# Altium footprint library PcbLib.PcbLib: 9 footprints
Each footprint in its own frame and in the unit in brackets; x right, y up, seen from the top. Pads: shape width x height; smd on the part's side, far side on the other; paste and mask are expansions set on the pad; w line width, h text height; cw(c..) or ccw(c..) is an arc to the next point about the centre after c.
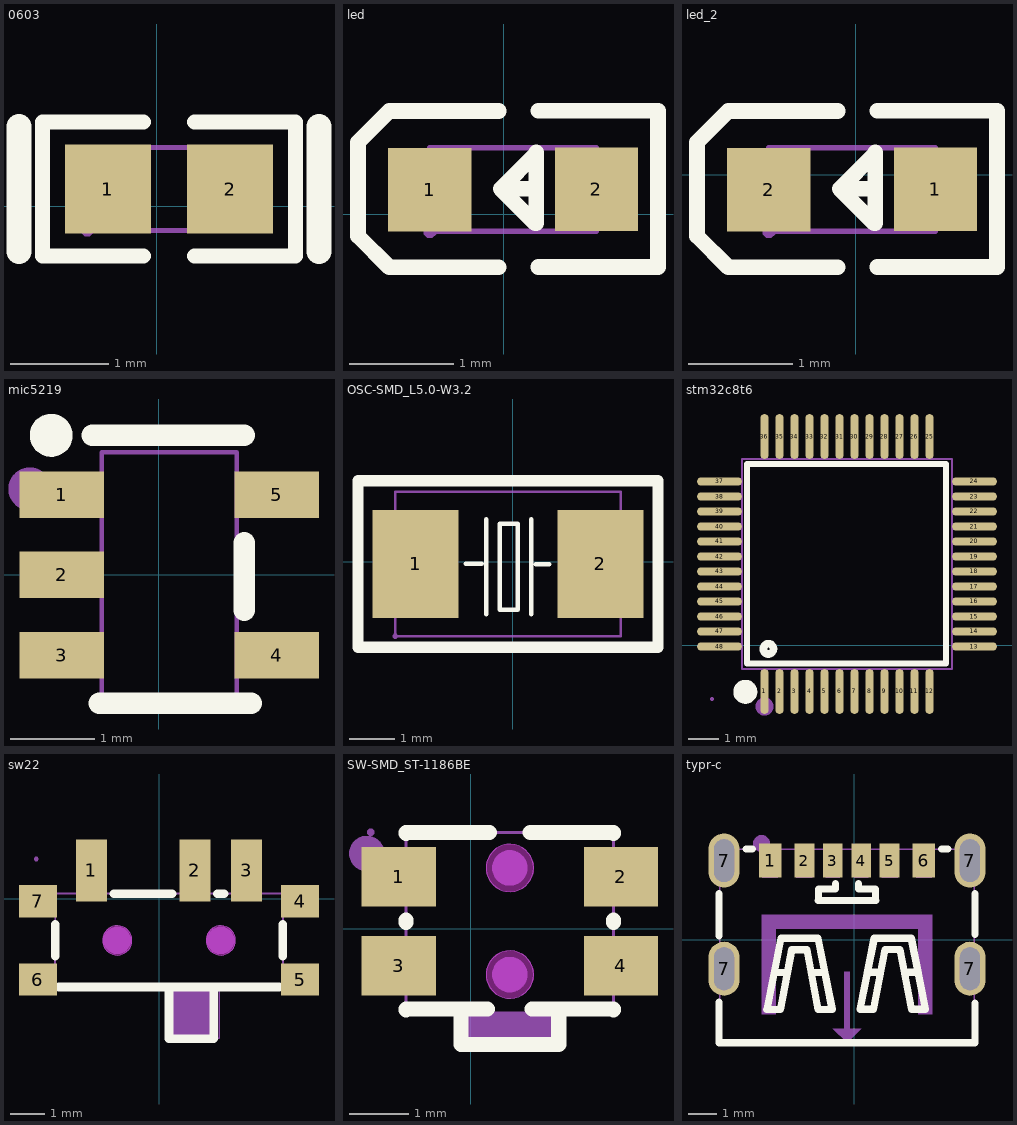
[diagram p0: the footprints below, top view; thin cyan lines are the x and y axes]

## 0603 [mm]
pads (2):
  rect 0.873x0.907 smd mask+0.051: 1(-0.495,0.174) 2(0.749,0.174)
Top Overlay:
  lines w0.152: -0.134,-0.508 -1.16,-0.508 -1.16,0.856 -0.134,0.856 ; 0.388,-0.508 1.414,-0.508 1.414,0.856 0.388,0.856
  lines w0.254: -1.397,-0.461 -1.397,0.809 ; 1.651,-0.461 1.651,0.809
Top Paste:
  region: -0.039,0.029 -0.039,0.319 -0.336,0.628 -0.864,0.628 -0.931,0.561 -0.931,-0.212 -0.864,-0.279 -0.336,-0.279
  region: 0.293,0.029 0.293,0.319 0.59,0.628 1.118,0.628 1.185,0.561 1.185,-0.212 1.118,-0.279 0.59,-0.279
Mechanical 15:
  region: 0.957,-0.246 0.957,0.594 0.527,0.594 0.527,-0.246
  region: -0.703,-0.246 -0.703,0.594 -0.273,0.594 -0.273,-0.246
  region: -0.643,-0.246 -0.643,-0.221 -0.678,-0.186 -0.728,-0.186 -0.763,-0.221 -0.763,-0.246 -0.763,-0.271 -0.728,-0.306 -0.678,-0.306 -0.643,-0.271
  lines w0.051: -0.703,-0.246 0.957,-0.246 0.957,0.594 -0.703,0.594 -0.703,-0.246

## led [mm]
pads (2):
  rect 0.8x0.8 smd mask+0.051: 1(-0.707,0.234) 2(0.892,0.241)
Top Overlay:
  lines w0.15: -0.047,-0.508 -1.097,-0.508 -1.397,-0.208 -1.397,-0.108 -1.397,0.592 -1.397,0.692 -1.097,0.992 -0.047,0.992 ; 0.313,0.244 -0.027,0.244 ; 0.333,-0.506 1.483,-0.506 ; 0.333,0.994 1.483,0.994 1.483,-0.486 ; -0.027,0.244 0.303,-0.086 0.313,-0.086 0.313,0.594 0.313,0.584 -0.027,0.244
Mechanical 6:
  region: 0.622,0.306 1.162,0.306 1.162,0.176 0.622,0.176
  region: 0.827,-0.029 0.827,0.511 0.957,0.511 0.957,-0.029
  region: -0.977,0.299 -0.437,0.299 -0.437,0.169 -0.977,0.169
Mechanical 15:
  region: -0.647,-0.166 -0.647,-0.141 -0.682,-0.106 -0.732,-0.106 -0.767,-0.141 -0.767,-0.166 -0.767,-0.19 -0.732,-0.226 -0.682,-0.226 -0.647,-0.19
  region: 0.593,-0.159 0.593,0.641 0.893,0.641 0.893,-0.159
  region: -0.707,-0.166 -0.707,0.634 -0.407,0.634 -0.407,-0.166
  lines w0.051: -0.707,-0.162 -0.707,0.638 0.893,0.638 0.893,-0.162 -0.707,-0.162

## led_2 [mm]
pads (2):
  rect 0.8x0.8 smd mask+0.051: 1(0.765,-0.14) 2(-0.834,-0.147)
Top Overlay:
  lines w0.15: -0.174,-0.889 -1.224,-0.889 -1.524,-0.589 -1.524,-0.489 -1.524,0.211 -1.524,0.311 -1.224,0.611 -0.174,0.611 ; 0.186,-0.137 -0.154,-0.137 ; 0.206,-0.887 1.356,-0.887 ; 0.206,0.613 1.356,0.613 1.356,-0.867 ; -0.154,-0.137 0.176,-0.467 0.186,-0.467 0.186,0.213 0.186,0.203 -0.154,-0.137
Mechanical 6:
  region: 0.495,-0.075 1.035,-0.075 1.035,-0.205 0.495,-0.205
  region: 0.7,-0.41 0.7,0.13 0.83,0.13 0.83,-0.41
  region: -1.104,-0.082 -0.564,-0.082 -0.564,-0.212 -1.104,-0.212
Mechanical 15:
  region: -0.774,-0.547 -0.774,-0.522 -0.809,-0.487 -0.859,-0.487 -0.894,-0.522 -0.894,-0.547 -0.894,-0.571 -0.859,-0.607 -0.809,-0.607 -0.774,-0.571
  region: 0.466,-0.54 0.466,0.26 0.766,0.26 0.766,-0.54
  region: -0.834,-0.547 -0.834,0.253 -0.534,0.253 -0.534,-0.547
  lines w0.051: -0.834,-0.543 -0.834,0.257 0.766,0.257 0.766,-0.543 -0.834,-0.543

## mic5219 [mm]
pads (5):
  rect 1x0.55 smd mask+0.051: 1(-1.144,0.948) 2(-1.144,-0.002) 3(-1.144,-0.952) 4(1.399,-0.952) 5(1.399,0.948)
Top Overlay:
  circle w0.254: c-1.27,1.649 r0.127
  lines w0.254: -0.784,1.649 1.016,1.649 ; -0.703,-1.524 1.097,-1.524 ; 1.016,-0.421 1.016,0.379
Mechanical 6:
  circle w0.254: c-1.524,1.014 r0.127
Mechanical 15:
  region: 1.077,1.148 1.527,1.148 1.527,0.748 1.077,0.748
  region: 0.917,1.148 1.087,1.148 1.087,0.748 0.917,0.748
  region: 1.077,-0.752 1.527,-0.752 1.527,-1.152 1.077,-1.152
  region: 0.917,-0.752 1.087,-0.752 1.087,-1.152 0.917,-1.152
  region: -1.273,-0.752 -0.823,-0.752 -0.823,-1.152 -1.273,-1.152
  region: -0.833,-0.752 -0.663,-0.752 -0.663,-1.152 -0.833,-1.152
  region: -1.273,0.198 -0.823,0.198 -0.823,-0.202 -1.273,-0.202
  region: -0.833,0.198 -0.663,0.198 -0.663,-0.202 -0.833,-0.202
  region: -1.273,1.148 -0.823,1.148 -0.823,0.748 -1.273,0.748
  region: -0.833,1.148 -0.663,1.148 -0.663,0.748 -0.833,0.748
  region: -1.13,1.534 -1.13,1.559 -1.165,1.594 -1.215,1.594 -1.25,1.559 -1.25,1.534 -1.25,1.509 -1.215,1.474 -1.165,1.474 -1.13,1.509
  lines w0.051: -0.673,-1.452 -0.673,1.448 0.927,1.448 0.927,-1.452 -0.673,-1.452

## OSC-SMD_L5.0-W3.2 [mm]
pads (2):
  rect 1.9x2.4 smd mask+0.051: 1(-2.154,-0.055) 2(1.946,-0.055)
Top Overlay:
  lines w0.1: -1.044,-0.055 -0.688,-0.055 ; -0.587,-1.164 -0.587,0.936 ; 0.413,-1.164 0.413,0.936 ; 0.513,-0.064 0.813,-0.064 ; -0.287,-1.064 -0.287,0.836 0.113,0.836 0.113,-1.064 -0.287,-1.064
  lines w0.254: -3.429,-1.905 3.221,-1.905 3.221,-0.755 3.221,0.645 3.221,1.795 -3.429,1.795 -3.429,0.645 -3.429,-0.755 -3.429,-1.905
Mechanical 15:
  region: -2.544,-1.655 -2.544,-1.63 -2.579,-1.595 -2.629,-1.595 -2.664,-1.63 -2.664,-1.655 -2.664,-1.68 -2.629,-1.715 -2.579,-1.715 -2.544,-1.68
  region: 2.396,0.945 2.396,-1.055 1.096,-1.055 1.096,0.945
  region: -1.304,0.945 -1.304,-1.055 -2.604,-1.055 -2.604,0.945
  lines w0.051: -2.604,-1.655 -2.604,1.545 2.396,1.545 2.396,-1.655 -2.604,-1.655

## stm32c8t6 [mm]
pads (48):
  oval 0.27x1.5 smd mask+0.05: 1(5.044,-1.536) 2(5.544,-1.536) 3(6.044,-1.536) 4(6.544,-1.536) 5(7.044,-1.536) 6(7.544,-1.536) 7(8.044,-1.536) 8(8.544,-1.536) 9(9.044,-1.536) 10(9.544,-1.536) 11(10.044,-1.536) 12(10.544,-1.536) 25(10.544,6.964) 26(10.044,6.964) 27(9.544,6.964) 28(9.044,6.964) 29(8.544,6.964) 30(8.044,6.964) 31(7.544,6.964) 32(7.044,6.964) 33(6.544,6.964) 34(6.044,6.964) 35(5.544,6.964) 36(5.044,6.964)
  oval 1.5x0.27 smd mask+0.05: 13(12.044,-0.036) 14(12.044,0.464) 15(12.044,0.964) 16(12.044,1.464) 17(12.044,1.964) 18(12.044,2.464) 19(12.044,2.964) 20(12.044,3.464) 21(12.044,3.964) 22(12.044,4.464) 23(12.044,4.964) 24(12.044,5.464) 37(3.544,5.464) 38(3.544,4.964) 39(3.544,4.464) 40(3.544,3.964) 41(3.544,3.464) 42(3.544,2.964) 43(3.544,2.464) 44(3.544,1.964) 45(3.544,1.464) 46(3.544,0.964) 47(3.544,0.464) 48(3.544,-0.036)
Top Overlay:
  circle w0.254: c5.174,-0.116 r0.17
  lines w0.2: 4.898,6.054 11.096,6.054 11.096,-0.601 4.467,-0.601 4.467,6.054 5.229,6.054
  lines w0.4: 4.404,-1.346 ccw(c4.405,-1.546) 4.406,-1.346
Mechanical 6:
  circle w0.3: c5.044,-2.036 r0.15
Mechanical 15:
  drawing of 101 lines, arcs and shapes, not listed

## sw22 [mm]
pads (7):
  rect 0.9x1.8 smd mask+0.051: 1(-1.964,0.819) 2(1.036,0.819) 3(2.536,0.819)
  rect 1.1x0.93 smd mask+0.051: 4(4.086,-0.077) 5(4.086,-2.347) 6(-3.514,-2.347) 7(-3.514,-0.077)
Top Overlay:
  lines w0.254: -3.014,-1.674 -3.014,-0.75 ; -2.914,-2.562 3.486,-2.562 ; -1.306,0.138 0.378,0.138 ; 0.286,-2.562 0.286,-4.062 1.586,-4.062 1.586,-2.562 ; 1.694,0.138 1.878,0.138 ; 3.586,-1.674 3.586,-0.75
Keep-Out Layer:
  board cut-out: -0.789,-1.212 -0.789,-1.128 -0.854,-0.972 -0.973,-0.852 -1.129,-0.787 -1.299,-0.787 -1.455,-0.852 -1.574,-0.972 -1.639,-1.128 -1.639,-1.212 -1.639,-1.297 -1.574,-1.453 -1.455,-1.573 -1.299,-1.637 -1.129,-1.637 -0.973,-1.573 -0.854,-1.453 -0.789,-1.297 -0.789,-1.212
  board cut-out: 2.211,-1.212 2.211,-1.128 2.146,-0.972 2.027,-0.852 1.87,-0.787 1.701,-0.787 1.545,-0.852 1.426,-0.972 1.361,-1.128 1.361,-1.212 1.361,-1.297 1.426,-1.453 1.545,-1.573 1.701,-1.637 1.87,-1.637 2.027,-1.573 2.146,-1.453 2.211,-1.297 2.211,-1.212
Mechanical 1:
  circle w0.005: c-1.214,-1.212 r0.425
  circle w0.005: c1.786,-1.212 r0.425
Mechanical 6:
  circle w0.4: c1.786,-1.212 r0.2
  circle w0.4: c-1.214,-1.212 r0.2
  region: 0.386,-2.564 0.386,-4.064 1.686,-4.064 1.686,-2.564
Mechanical 15:
  region: 3.542,-2.562 3.542,-2.132 4.142,-2.132 4.142,-2.562
  region: 3.542,-0.292 3.542,0.138 4.142,0.138 4.142,-0.292
  region: -3.567,-2.562 -3.567,-2.132 -2.967,-2.132 -2.967,-2.562
  region: -3.567,-0.292 -3.567,0.138 -2.967,0.138 -2.967,-0.292
  region: 2.736,-0.051 2.336,-0.051 2.336,1.149 2.736,1.149
  region: 1.236,-0.051 0.836,-0.051 0.836,1.149 1.236,1.149
  region: -1.764,-0.051 -2.164,-0.051 -2.164,1.149 -1.764,1.149
  region: -3.507,1.149 -3.507,1.174 -3.542,1.209 -3.592,1.209 -3.627,1.174 -3.627,1.149 -3.627,1.124 -3.592,1.089 -3.542,1.089 -3.507,1.124 -3.507,1.149
  lines w0.051: -3.017,-2.553 -3.017,-2.388 -3.014,0.149 3.591,0.149 3.591,-2.557 1.743,-2.557 1.743,-4.053 0.445,-4.053 0.445,-2.553 -3.017,-2.553

## SW-SMD_ST-1186BE [mm]
pads (4):
  rect 1.25x1 smd mask+0.051: 1(-1.217,0.877) 2(2.533,0.877) 3(-1.217,-0.623) 4(2.533,-0.623)
Top Overlay:
  lines w0.254: -1.092,-1.373 -1.092,-1.354 0.283,-1.354 ; -1.092,0.108 -1.092,0.146 ; -1.092,1.608 -1.092,1.627 0.314,1.627 ; -0.167,-1.354 -0.167,-1.954 1.483,-1.954 1.483,-1.354 ; 1.002,1.627 2.408,1.627 2.408,1.608 ; 1.033,-1.354 2.408,-1.354 2.408,-1.373 ; 2.408,0.108 2.408,0.146
Keep-Out Layer:
  board cut-out: 1.058,1.027 1.058,1.106 0.997,1.254 0.885,1.366 0.738,1.427 0.578,1.427 0.431,1.366 0.319,1.254 0.258,1.106 0.258,1.027 0.258,0.947 0.319,0.8 0.431,0.688 0.578,0.627 0.738,0.627 0.885,0.688 0.997,0.8 1.058,0.947
  board cut-out: 1.058,-0.773 1.058,-0.693 0.997,-0.546 0.885,-0.434 0.738,-0.373 0.578,-0.373 0.431,-0.434 0.319,-0.546 0.258,-0.693 0.258,-0.773 0.258,-0.852 0.319,-1 0.431,-1.112 0.578,-1.173 0.738,-1.173 0.885,-1.112 0.997,-1 1.058,-0.852
Mechanical 1:
  circle w0.005: c0.658,1.027 r0.4
  circle w0.005: c0.658,-0.773 r0.4
Mechanical 6:
  circle w0.3: c0.658,1.027 r0.15
  circle w0.3: c0.658,1.027 r0.15
  circle w0.3: c0.658,-0.773 r0.15
  circle w0.3: c-1.755,1.27 r0.15
  region: -0.104,-2.032 -0.104,-1.397 1.42,-1.397 1.42,-2.032
Mechanical 15:
  region: -1.632,1.627 -1.632,1.652 -1.667,1.687 -1.717,1.687 -1.752,1.652 -1.752,1.627 -1.752,1.602 -1.717,1.567 -1.667,1.567 -1.632,1.602
  region: -0.942,1.127 -0.942,0.627 -1.692,0.627 -1.692,1.127
  region: -0.942,-0.373 -0.942,-0.873 -1.692,-0.873 -1.692,-0.373
  region: 3.008,-0.373 3.008,-0.873 2.258,-0.873 2.258,-0.373
  region: 3.008,1.127 3.008,0.627 2.258,0.627 2.258,1.127
  lines w0.051: -1.092,-1.373 -1.092,1.627 2.408,1.627 2.408,-1.373 1.483,-1.373 1.483,-1.973 -0.167,-1.973 -0.167,-1.373 -1.092,-1.373

## typr-c [mil]
pads (10):
  rect 31.5x47.2 smd mask+2: 1(-116.65,109.4) 6(95.95,109.4)
  rect 27.6x47.2 smd mask+2: 2(-69.45,109.4) 3(-30.05,109.4) 4(9.35,109.4) 5(48.75,109.4)
  oval 43.3x74.8 hole 27.6 slot 59.1 at 90 deg mask+2: 7(-180.45,-40.2) 7(-180.45,109.4) 7(159.75,-40.2) 7(159.75,109.4)
Top Overlay:
  lines w9.8: -187.55,-87.5 -187.55,-86.6 -187.55,-142.6 166.85,-142.6 166.85,-87.5 ; -187.55,5.4 -187.55,62.2 -187.55,63.8 ; -149.75,125.2 -141.45,125.2 ; -50.15,54.3 29.45,54.3 ; -49.75,54.3 -49.75,70 -26.05,70 -26.05,77.9 ; 5.35,77.9 5.35,70 29.05,70 29.05,54.3 ; 120.75,125.2 129.05,125.2 ; 166.85,7 166.85,64.1
  lines w10: -109.45,-45.4 -93.75,-45.4 ; -58.35,-45.4 -42.55,-45.4 ; 19.55,-45.2 35.25,-45.2 ; 70.65,-45.2 86.45,-45.2 ; -121.25,-96.6 -102.55,-96.6 -86.75,-13.9 -65.95,-13.9 -50.25,-96.6 -30.75,-96.6 -50.45,1.9 -101.65,1.9 -121.25,-96.6 ; 7.75,-96.4 26.45,-96.4 42.25,-13.7 63.05,-13.7 78.75,-96.4 98.25,-96.4 78.55,2.1 27.35,2.1 7.75,-96.4
Top Paste:
  region: 138.05,-24.5 138.05,-20.19 141.35,-12.24 147.44,-6.15 155.39,-2.85 164.01,-2.85 171.96,-6.15 178.05,-12.24 181.35,-20.19 181.35,-24.5 181.35,-56 181.35,-60.31 178.05,-68.26 171.96,-74.35 164.01,-77.65 155.39,-77.65 147.44,-74.35 141.35,-68.26 138.05,-60.31 138.05,-56
  region: -202.05,-24.5 -202.05,-20.19 -198.75,-12.24 -192.66,-6.15 -184.71,-2.85 -176.09,-2.85 -168.14,-6.15 -162.05,-12.24 -158.75,-20.19 -158.75,-24.5 -158.75,-56 -158.75,-60.31 -162.05,-68.26 -168.14,-74.35 -176.09,-77.65 -184.71,-77.65 -192.66,-74.35 -198.75,-68.26 -202.05,-60.31 -202.05,-56
  region: 138.05,125.2 138.05,129.51 141.35,137.46 147.44,143.55 155.39,146.85 164.01,146.85 171.96,143.55 178.05,137.46 181.35,129.51 181.35,125.2 181.35,93.7 181.35,89.39 178.05,81.44 171.96,75.35 164.01,72.05 155.39,72.05 147.44,75.35 141.35,81.44 138.05,89.39 138.05,93.7
  region: -202.05,125.2 -202.05,129.51 -198.75,137.46 -192.66,143.55 -184.71,146.85 -176.09,146.85 -168.14,143.55 -162.05,137.46 -158.75,129.51 -158.75,125.2 -158.75,93.7 -158.75,89.39 -162.05,81.44 -168.14,75.35 -176.09,72.05 -184.71,72.05 -192.66,75.35 -198.75,81.44 -202.05,89.39 -202.05,93.7
  region: -132.35,133 -100.95,133 -100.95,85.8 -132.35,85.8
  region: -83.15,133 -55.65,133 -55.65,85.8 -83.15,85.8
  region: -43.85,133 -16.25,133 -16.25,85.8 -43.85,85.8
  region: -4.45,133 23.15,133 23.15,85.8 -4.45,85.8
  region: 34.95,133 62.45,133 62.45,85.8 34.95,85.8
  region: 80.25,133 111.65,133 111.65,85.8 80.25,85.8
Mechanical 6:
  circle w11.8: c-128.45,133 r5.9
  region: -10.35,-122.9 -14.25,-122.9 -14.25,-44.1 -6.45,-44.1 -6.45,-122.9
  region: -30.05,-122.9 9.35,-122.9 -10.35,-142.6
  region: -108.75,34.6 88.05,34.6 88.05,14.9 -108.75,14.9
  region: 107.75,-103.2 107.75,34.6 88.05,34.6 88.05,-103.2
  region: -128.45,-103.2 -128.45,34.6 -108.75,34.6 -108.75,-103.2
Mechanical 15:
  region: -0.55,125.2 19.15,125.2 19.15,85.8 -0.55,85.8
  region: -39.85,125.2 -20.15,125.2 -20.15,85.8 -39.85,85.8
  region: -186.35,125.2 -174.55,125.2 -174.55,93.7 -186.35,93.7
  region: -186.35,-24.5 -174.55,-24.5 -174.55,-56 -186.35,-56
  region: 153.85,-24.5 165.65,-24.5 165.65,-56 153.85,-56
  region: 153.85,125.2 165.65,125.2 165.65,93.7 153.85,93.7
  region: 85.15,125.2 106.75,125.2 106.75,85.8 85.15,85.8
  region: 37.85,125.2 59.55,125.2 59.55,85.8 37.85,85.8
  region: -80.25,125.2 -58.55,125.2 -58.55,85.8 -80.25,85.8
  region: -127.45,125.2 -105.85,125.2 -105.85,85.8 -127.45,85.8
  region: 168.05,-142.6 168.05,-141.61 166.64,-140.2 164.66,-140.2 163.25,-141.61 163.25,-142.6 163.25,-143.59 164.66,-145 166.64,-145 168.05,-143.59
  lines w2: -186.35,-142.6 165.65,-142.6 165.65,125.2 -186.35,125.2 -186.35,-142.6